# Altium footprint library wirepad.PCBLIB: 18 footprints (part 1 of 2)
Each footprint in its own frame and in the unit in brackets; x right, y up, seen from the top. Pads: shape width x height; smd on the part's side, far side on the other; paste and mask are expansions set on the pad; w line width, h text height; cw(c..) or ccw(c..) is an arc to the next point about the centre after c.
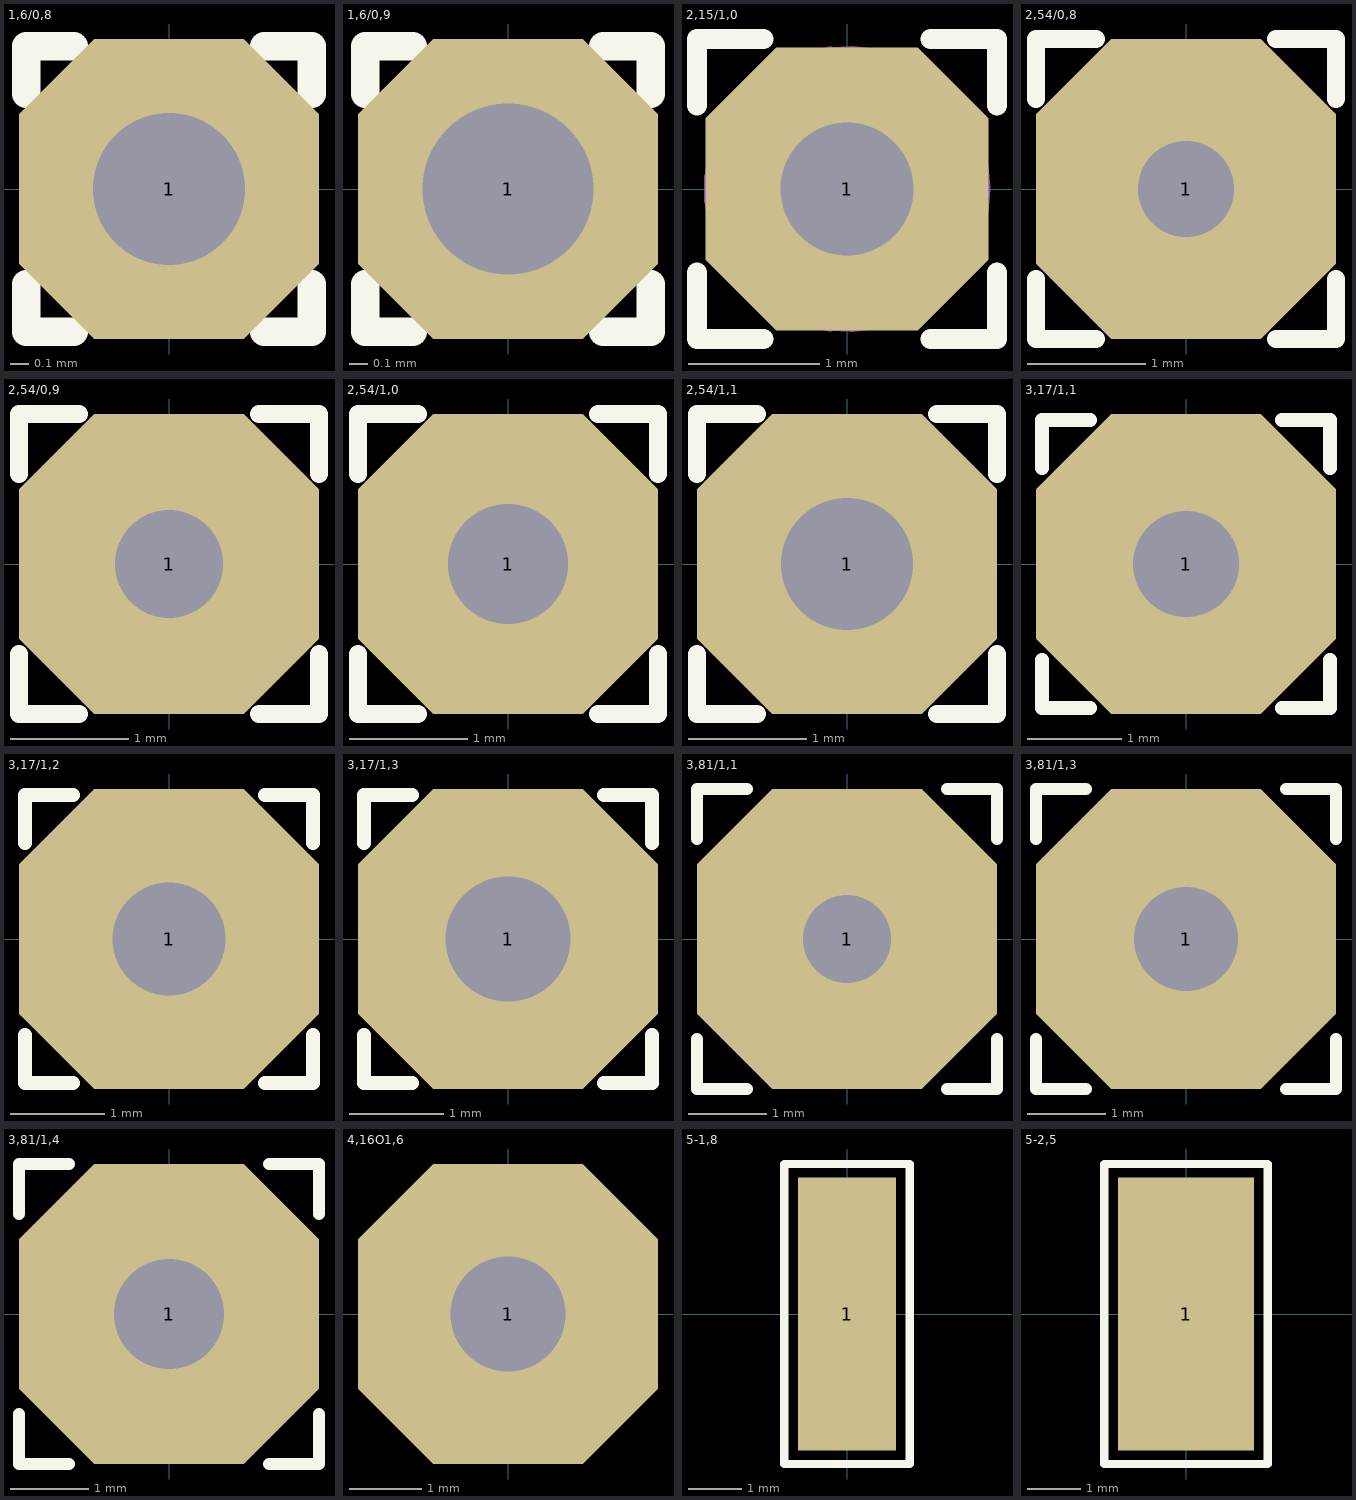
[diagram p0: the footprints below, top view; thin cyan lines are the x and y axes]

## 1,6/0,8 [mil]
pads (1):
  oct 63x63 hole 32: 1(0,0)
Top Overlay:
  lines w6: -30,-20 -30,-30 -20,-30 ; -30,20 -30,30 -20,30 ; 20,-30 30,-30 30,-20 ; 20,30 30,30 30,20
Mechanical 16:
  circle w6: c0,0 r25

## 1,6/0,9 [mil]
pads (1):
  oct 63x63 hole 36: 1(0,0)
Top Overlay:
  lines w6: -30,-20 -30,-30 -20,-30 ; -30,20 -30,30 -20,30 ; 20,-30 30,-30 30,-20 ; 20,30 30,30 30,20
Mechanical 16:
  circle w6: c0,0 r25

## 2,15/1,0 [mil]
pads (1):
  oct 85x85 hole 40: 1(0,0)
Top Overlay:
  lines w6: -45,-25 -45,-45 -25,-45 ; -45,25 -45,45 -25,45 ; 25,-45 45,-45 45,-25 ; 25,45 45,45 45,25
Mechanical 16:
  circle w6: c0,0 r40

## 2,54/0,8 [mil]
pads (1):
  oct 100x100 hole 32: 1(0,0)
Top Overlay:
  lines w6: -50,-30 -50,-50 -30,-50 ; -50,30 -50,50 -30,50 ; 30,-50 50,-50 50,-30 ; 30,50 50,50 50,30
Mechanical 16:
  circle w6: c0,0 r25

## 2,54/0,9 [mil]
pads (1):
  oct 100x100 hole 36: 1(0,0)
Top Overlay:
  lines w6: -50,-30 -50,-50 -30,-50 ; -50,30 -50,50 -30,50 ; 30,-50 50,-50 50,-30 ; 30,50 50,50 50,30
Mechanical 16:
  circle w6: c0,0 r25

## 2,54/1,0 [mil]
pads (1):
  oct 100x100 hole 40: 1(0,0)
Top Overlay:
  lines w6: -50,-30 -50,-50 -30,-50 ; -50,30 -50,50 -30,50 ; 30,-50 50,-50 50,-30 ; 30,50 50,50 50,30
Mechanical 16:
  circle w6: c0,0 r40

## 2,54/1,1 [mil]
pads (1):
  oct 100x100 hole 44: 1(0,0)
Top Overlay:
  lines w6: -50,-30 -50,-50 -30,-50 ; -50,30 -50,50 -30,50 ; 30,-50 50,-50 50,-30 ; 30,50 50,50 50,30
Mechanical 16:
  circle w6: c0,0 r40

## 3,17/1,1 [mil]
pads (1):
  oct 125x125 hole 44: 1(0,0)
Top Overlay:
  lines w6: -60,-40 -60,-60 -40,-60 ; -60,40 -60,60 -40,60 ; 40,-60 60,-60 60,-40 ; 40,60 60,60 60,40
Mechanical 16:
  circle w6: c0,0 r50

## 3,17/1,2 [mil]
pads (1):
  oct 125x125 hole 47: 1(0,0)
Top Overlay:
  lines w6: -60,-40 -60,-60 -40,-60 ; -60,40 -60,60 -40,60 ; 40,-60 60,-60 60,-40 ; 40,60 60,60 60,40
Mechanical 16:
  circle w6: c0,0 r50

## 3,17/1,3 [mil]
pads (1):
  oct 125x125 hole 52: 1(0,0)
Top Overlay:
  lines w6: -60,-40 -60,-60 -40,-60 ; -60,40 -60,60 -40,60 ; 40,-60 60,-60 60,-40 ; 40,60 60,60 60,40
Mechanical 16:
  circle w6: c0,0 r50

## 3,81/1,1 [mil]
pads (1):
  oct 150x150 hole 44: 1(0,0)
Top Overlay:
  lines w6: -75,-50 -75,-75 -50,-75 ; -75,50 -75,75 -50,75 ; 50,-75 75,-75 75,-50 ; 50,75 75,75 75,50
Mechanical 16:
  circle w6: c0,0 r50

## 3,81/1,3 [mil]
pads (1):
  oct 150x150 hole 52: 1(0,0)
Top Overlay:
  lines w6: -75,-50 -75,-75 -50,-75 ; -75,50 -75,75 -50,75 ; 50,-75 75,-75 75,-50 ; 50,75 75,75 75,50
Mechanical 16:
  circle w6: c0,0 r50

## 3,81/1,4 [mil]
pads (1):
  oct 150x150 hole 55: 1(0,0)
Top Overlay:
  lines w6: -75,-50 -75,-75 -50,-75 ; -75,50 -75,75 -50,75 ; 50,-75 75,-75 75,-50 ; 50,75 75,75 75,50
Mechanical 16:
  circle w6: c0,0 r50

## 4,16O1,6 [mil]
pads (1):
  oct 164x164 hole 63: 1(0,0)

## 5-1,8 [mil]
pads (1):
  rect 72x200 smd: 1(0,0)
Top Overlay:
  lines w6: -46,-110 -46,110 46,110 46,-110 -46,-110

## 5-2,5 [mil]
pads (1):
  rect 100x200 smd: 1(0,0)
Top Overlay:
  lines w6: -60,-110 -60,110 60,110 60,-110 -60,-110